# Altium schematic symbol library SCH - DRIVER - LED - ST LED1202QTR.SCHLIB: 1 symbol
Pins are listed as number, name and electrical type; pins without a type are passive.

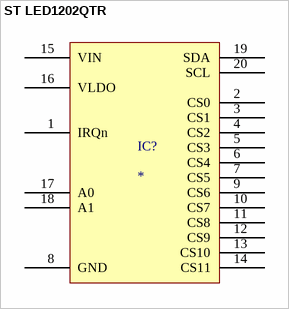
[diagram p0: symbol ST LED1202QTR]

## ST LED1202QTR
designator IC?
pins: 1 IRQn, 2 CS0, 3 CS1, 4 CS2, 5 CS3, 6 CS4, 7 CS5, 8 GND, 9 CS6, 10 CS7, 11 CS8, 12 CS9, 13 CS10, 14 CS11, 15 VIN, 16 VLDO, 17 A0, 18 A1, 19 SDA, 20 SCL